# EAGLE library part XC6SLX-TQ144 (library archived)
Spartan-6 in 144-TQFP package
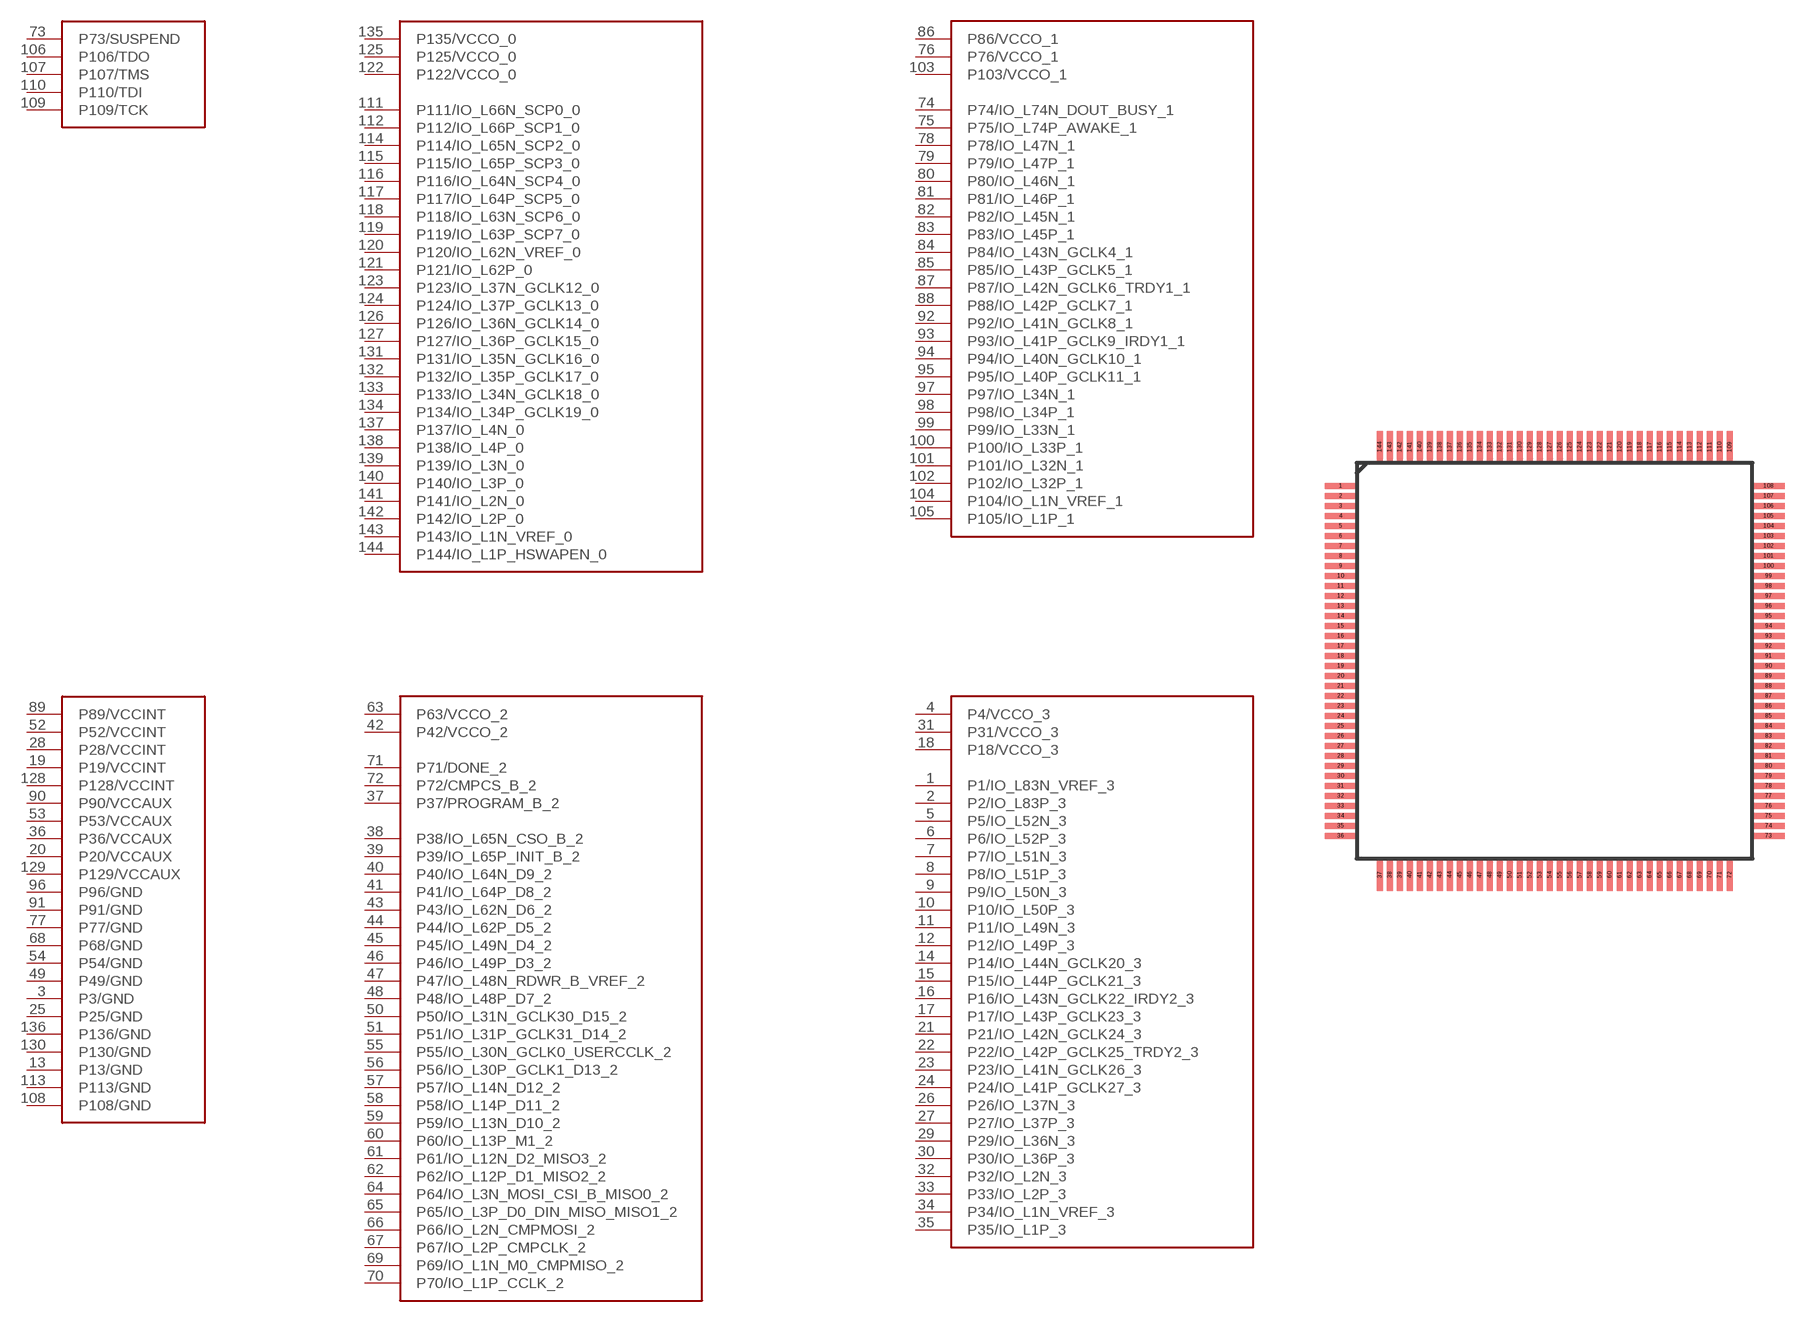
[diagram p15: symbol with the pads of XILNX_TQ144; footprint XILNX_TQ144]

Designator prefix -

## XC6SLX-TQ144  [XILNX_TQ144]
1  P1/IO_L83N_VREF_3
2  P2/IO_L83P_3
3  P3/GND
4  P4/VCCO_3
5  P5/IO_L52N_3
6  P6/IO_L52P_3
7  P7/IO_L51N_3
8  P8/IO_L51P_3
9  P9/IO_L50N_3
10  P10/IO_L50P_3
11  P11/IO_L49N_3
12  P12/IO_L49P_3
13  P13/GND
14  P14/IO_L44N_GCLK20_3
15  P15/IO_L44P_GCLK21_3
16  P16/IO_L43N_GCLK22_IRDY2_3
17  P17/IO_L43P_GCLK23_3
18  P18/VCCO_3
19  P19/VCCINT
20  P20/VCCAUX
21  P21/IO_L42N_GCLK24_3
22  P22/IO_L42P_GCLK25_TRDY2_3
23  P23/IO_L41N_GCLK26_3
24  P24/IO_L41P_GCLK27_3
25  P25/GND
26  P26/IO_L37N_3
27  P27/IO_L37P_3
28  P28/VCCINT
29  P29/IO_L36N_3
30  P30/IO_L36P_3
31  P31/VCCO_3
32  P32/IO_L2N_3
33  P33/IO_L2P_3
34  P34/IO_L1N_VREF_3
35  P35/IO_L1P_3
36  P36/VCCAUX
37  P37/PROGRAM_B_2
38  P38/IO_L65N_CSO_B_2
39  P39/IO_L65P_INIT_B_2
40  P40/IO_L64N_D9_2
41  P41/IO_L64P_D8_2
42  P42/VCCO_2
43  P43/IO_L62N_D6_2
44  P44/IO_L62P_D5_2
45  P45/IO_L49N_D4_2
46  P46/IO_L49P_D3_2
47  P47/IO_L48N_RDWR_B_VREF_2
48  P48/IO_L48P_D7_2
49  P49/GND
50  P50/IO_L31N_GCLK30_D15_2
51  P51/IO_L31P_GCLK31_D14_2
52  P52/VCCINT
53  P53/VCCAUX
54  P54/GND
55  P55/IO_L30N_GCLK0_USERCCLK_2
56  P56/IO_L30P_GCLK1_D13_2
57  P57/IO_L14N_D12_2
58  P58/IO_L14P_D11_2
59  P59/IO_L13N_D10_2
60  P60/IO_L13P_M1_2
61  P61/IO_L12N_D2_MISO3_2
62  P62/IO_L12P_D1_MISO2_2
63  P63/VCCO_2
64  P64/IO_L3N_MOSI_CSI_B_MISO0_2
65  P65/IO_L3P_D0_DIN_MISO_MISO1_2
66  P66/IO_L2N_CMPMOSI_2
67  P67/IO_L2P_CMPCLK_2
68  P68/GND
69  P69/IO_L1N_M0_CMPMISO_2
70  P70/IO_L1P_CCLK_2
71  P71/DONE_2
72  P72/CMPCS_B_2
73  P73/SUSPEND
74  P74/IO_L74N_DOUT_BUSY_1
75  P75/IO_L74P_AWAKE_1
76  P76/VCCO_1
77  P77/GND
78  P78/IO_L47N_1
79  P79/IO_L47P_1
80  P80/IO_L46N_1
81  P81/IO_L46P_1
82  P82/IO_L45N_1
83  P83/IO_L45P_1
84  P84/IO_L43N_GCLK4_1
85  P85/IO_L43P_GCLK5_1
86  P86/VCCO_1
87  P87/IO_L42N_GCLK6_TRDY1_1
88  P88/IO_L42P_GCLK7_1
89  P89/VCCINT
90  P90/VCCAUX
91  P91/GND
92  P92/IO_L41N_GCLK8_1
93  P93/IO_L41P_GCLK9_IRDY1_1
94  P94/IO_L40N_GCLK10_1
95  P95/IO_L40P_GCLK11_1
96  P96/GND
97  P97/IO_L34N_1
98  P98/IO_L34P_1
99  P99/IO_L33N_1
100  P100/IO_L33P_1
101  P101/IO_L32N_1
102  P102/IO_L32P_1
103  P103/VCCO_1
104  P104/IO_L1N_VREF_1
105  P105/IO_L1P_1
106  P106/TDO
107  P107/TMS
108  P108/GND
109  P109/TCK
110  P110/TDI
111  P111/IO_L66N_SCP0_0
112  P112/IO_L66P_SCP1_0
113  P113/GND
114  P114/IO_L65N_SCP2_0
115  P115/IO_L65P_SCP3_0
116  P116/IO_L64N_SCP4_0
117  P117/IO_L64P_SCP5_0
118  P118/IO_L63N_SCP6_0
119  P119/IO_L63P_SCP7_0
120  P120/IO_L62N_VREF_0
121  P121/IO_L62P_0
122  P122/VCCO_0
123  P123/IO_L37N_GCLK12_0
124  P124/IO_L37P_GCLK13_0
125  P125/VCCO_0
126  P126/IO_L36N_GCLK14_0
127  P127/IO_L36P_GCLK15_0
128  P128/VCCINT
129  P129/VCCAUX
130  P130/GND
131  P131/IO_L35N_GCLK16_0
132  P132/IO_L35P_GCLK17_0
133  P133/IO_L34N_GCLK18_0
134  P134/IO_L34P_GCLK19_0
135  P135/VCCO_0
136  P136/GND
137  P137/IO_L4N_0
138  P138/IO_L4P_0
139  P139/IO_L3N_0
140  P140/IO_L3P_0
141  P141/IO_L2N_0
142  P142/IO_L2P_0
143  P143/IO_L1N_VREF_0
144  P144/IO_L1P_HSWAPEN_0

## Footprint XILNX_TQ144 (pad centres in mm)
Xilinx 0.5mm-pitch 144-pin TQFP Got base footprint from somewhere; modified according to the Xilinx guide <http://www.xilinx.com/support/documentation/user_guides/ug112.pdf#page=85>
smd 1.6 x 0.3: 1 -10.7,8.75; 2 -10.7,8.25; 3 -10.7,7.75; 4 -10.7,7.25; 5 -10.7,6.75; 6 -10.7,6.25; 7 -10.7,5.75; 8 -10.7,5.25; 9 -10.7,4.75; 10 -10.7,4.25; 11 -10.7,3.75; 12 -10.7,3.25; 13 -10.7,2.75; 14 -10.7,2.25; 15 -10.7,1.75; 16 -10.7,1.25; 17 -10.7,0.75; 18 -10.7,0.25; 19 -10.7,-0.25; 20 -10.7,-0.75; 21 -10.7,-1.25; 22 -10.7,-1.75; 23 -10.7,-2.25; 24 -10.7,-2.75; 25 -10.7,-3.25; 26 -10.7,-3.75; 27 -10.7,-4.25; 28 -10.7,-4.75; 29 -10.7,-5.25; 30 -10.7,-5.75; 31 -10.7,-6.25; 32 -10.7,-6.75; 33 -10.7,-7.25; 34 -10.7,-7.75; 35 -10.7,-8.25; 36 -10.7,-8.75; 73 10.7,-8.75; 74 10.7,-8.25; 75 10.7,-7.75; 76 10.7,-7.25; 77 10.7,-6.75; 78 10.7,-6.25; 79 10.7,-5.75; 80 10.7,-5.25; 81 10.7,-4.75; 82 10.7,-4.25; 83 10.7,-3.75; 84 10.7,-3.25; 85 10.7,-2.75; 86 10.7,-2.25; 87 10.7,-1.75; 88 10.7,-1.25; 89 10.7,-0.75; 90 10.7,-0.25; 91 10.7,0.25; 92 10.7,0.75; 93 10.7,1.25; 94 10.7,1.75; 95 10.7,2.25; 96 10.7,2.75; 97 10.7,3.25; 98 10.7,3.75; 99 10.7,4.25; 100 10.7,4.75; 101 10.7,5.25; 102 10.7,5.75; 103 10.7,6.25; 104 10.7,6.75; 105 10.7,7.25; 106 10.7,7.75; 107 10.7,8.25; 108 10.7,8.75
smd 0.3 x 1.6: 37 -8.75,-10.7; 38 -8.25,-10.7; 39 -7.75,-10.7; 40 -7.25,-10.7; 41 -6.75,-10.7; 42 -6.25,-10.7; 43 -5.75,-10.7; 44 -5.25,-10.7; 45 -4.75,-10.7; 46 -4.25,-10.7; 47 -3.75,-10.7; 48 -3.25,-10.7; 49 -2.75,-10.7; 50 -2.25,-10.7; 51 -1.75,-10.7; 52 -1.25,-10.7; 53 -0.75,-10.7; 54 -0.25,-10.7; 55 0.25,-10.7; 56 0.75,-10.7; 57 1.25,-10.7; 58 1.75,-10.7; 59 2.25,-10.7; 60 2.75,-10.7; 61 3.25,-10.7; 62 3.75,-10.7; 63 4.25,-10.7; 64 4.75,-10.7; 65 5.25,-10.7; 66 5.75,-10.7; 67 6.25,-10.7; 68 6.75,-10.7; 69 7.25,-10.7; 70 7.75,-10.7; 71 8.25,-10.7; 72 8.75,-10.7; 109 8.75,10.7; 110 8.25,10.7; 111 7.75,10.7; 112 7.25,10.7; 113 6.75,10.7; 114 6.25,10.7; 115 5.75,10.7; 116 5.25,10.7; 117 4.75,10.7; 118 4.25,10.7; 119 3.75,10.7; 120 3.25,10.7; 121 2.75,10.7; 122 2.25,10.7; 123 1.75,10.7; 124 1.25,10.7; 125 0.75,10.7; 126 0.25,10.7; 127 -0.25,10.7; 128 -0.75,10.7; 129 -1.25,10.7; 130 -1.75,10.7; 131 -2.25,10.7; 132 -2.75,10.7; 133 -3.25,10.7; 134 -3.75,10.7; 135 -4.25,10.7; 136 -4.75,10.7; 137 -5.25,10.7; 138 -5.75,10.7; 139 -6.25,10.7; 140 -6.75,10.7; 141 -7.25,10.7; 142 -7.75,10.7; 143 -8.25,10.7; 144 -8.75,10.7